# EAGLE library part PIC12C*? (library microchip-rp)
MICROCONTROLLER
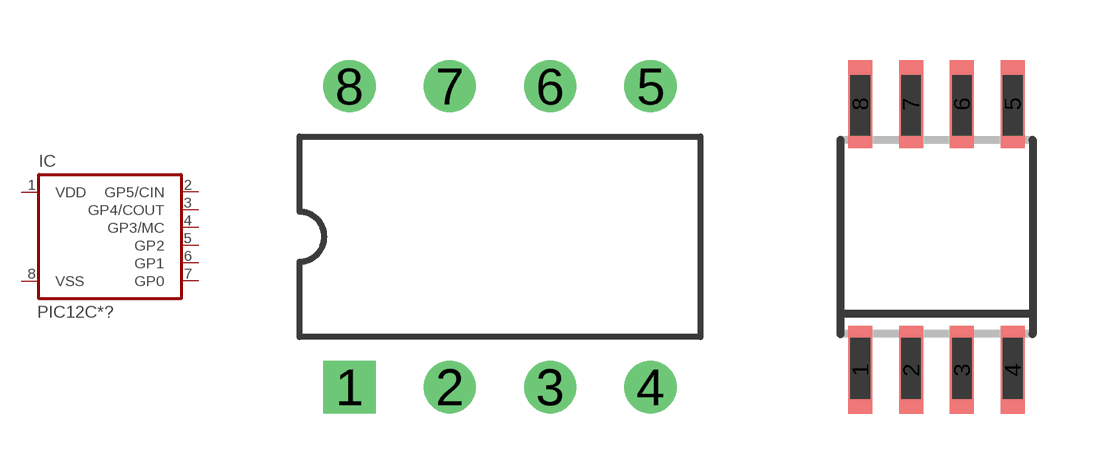
[diagram p23: symbol with the pads of DIL8; footprints DIL8, SO-08M]

Designator prefix IC

## PIC12C508P (MF: MICROCHIP; MPN: PIC12C508A-04I/P; OC_FARNELL: 9758763; OC_NEWARK: 12C1849), PIC12C509P (MF: MICROCHIP; MPN: PIC12C509-04/P; OC_FARNELL: 9758810; OC_NEWARK: 54K2820), PIC12C671P (MF: MICROCHIP; MPN: PIC12C671-10/P; OC_FARNELL: 9758860; OC_NEWARK: 23C2974), PIC12C672P (MF: MICROCHIP; MPN: PIC12C672-04/P; OC_FARNELL: 9758887; OC_NEWARK: 59K0241)  [DIL8]
1  VDD  pwr
2  GP5/CIN
3  GP4/COUT
4  GP3/MC  in
5  GP2
6  GP1
7  GP0
8  VSS  pwr

## PIC12C508JN (MF: MICROCHIP; MPN: PIC12C508-04/P; OC_FARNELL: 9758771; OC_NEWARK: 60K6710), PIC12C509JN (MF: MICROCHIP; MPN: PIC12C509A-04I/P; OC_FARNELL: 9758828; OC_NEWARK: 23C2958), PIC12C671JN (MPN: PIC12C671-10I/P; OC_FARNELL: 1084238; OC_NEWARK: 34M7956), PIC12C672JN (MF: MICROCHIP; MPN: PIC12C672-04/P; OC_FARNELL: 9758887; OC_NEWARK: 59K0241)  [DIL8]
Pads as for DIL8

## PIC12C508SM (MF: MICROCHIP; MPN: PIC12C508-04I/SM; OC_FARNELL: 1196846; OC_NEWARK: 96K3762), PIC12C509SM (MF: MICROCHIP; MPN: PIC12C509A-04I/SM; OC_FARNELL: 9758844; OC_NEWARK: 65K1035), PIC12C671SM (MPN: PIC12C671-10I/SM; OC_FARNELL: 1196776; OC_NEWARK: 24M5845), PIC12C672SM (MF: MICROCHIP; MPN: PIC12C672-04/SM; OC_FARNELL: 1137297; OC_NEWARK: 72K7294)  [SO-08M]
Pads as for DIL8

## Footprint DIL8 (pad centres in mm)
Dual In Line package type P
drill 0.813 square: 1 -3.81,-3.81
drill 0.813 round: 2 -1.27,-3.81; 3 1.27,-3.81; 4 3.81,-3.81; 5 3.81,3.81; 6 1.27,3.81; 7 -1.27,3.81; 8 -3.81,3.81

## Footprint SO-08M (pad centres in mm)
Small Outline Medium Plastic Gull Wing 207-mil body, package type SM
smd 0.6 x 2.2: 1 -1.905,-3.33; 2 -0.635,-3.33; 3 0.635,-3.33; 4 1.905,-3.33; 5 1.905,3.33; 6 0.635,3.33; 7 -0.635,3.33; 8 -1.905,3.33